# EAGLE library part TMS4416 (library TMS99)
TMS4416
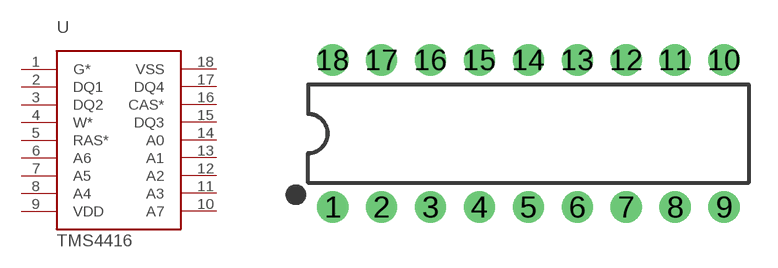
[diagram p6: symbol with the pads of DIP18; footprint DIP18]

Designator prefix U

## TMS4416  [DIP18]
1  G*
2  DQ1
3  DQ2
4  W*
5  RAS*
6  A6
7  A5
8  A4
9  VDD
10  A7
11  A3
12  A2
13  A1
14  A0
15  DQ3
16  CAS*
17  DQ4
18  VSS

## Footprint DIP18 (pad centres in mm)
Dual In Line Package -18 Specifications: Pin count:18 Example device(s): MCP2515(MCP2510)
drill 0.813 pad 1.626: 1 -10.16,-3.81; 2 -7.62,-3.81; 3 -5.08,-3.81; 4 -2.54,-3.81; 5 0,-3.81; 6 2.54,-3.81; 7 5.08,-3.81; 8 7.62,-3.81; 9 10.16,-3.81; 10 10.16,3.81; 11 7.62,3.81; 12 5.08,3.81; 13 2.54,3.81; 14 0,3.81; 15 -2.54,3.81; 16 -5.08,3.81; 17 -7.62,3.81; 18 -10.16,3.81